# EAGLE library part SGTL5000 (library lib_stankus)
Freescale SGTL5000 audio codec
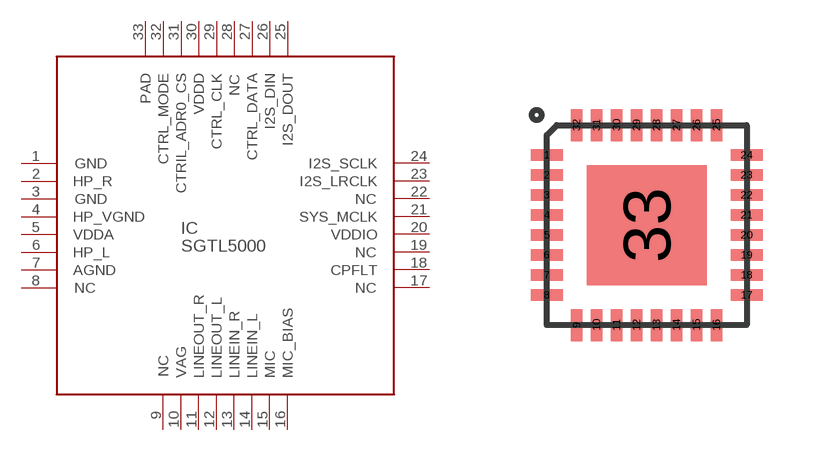
[diagram p39: symbol with the pads of QFN32_5_05; footprint QFN32_5_05]

Designator prefix IC

## SGTL5000-QFN32  [QFN32_5_05]
1  GND  pas
2  HP_R  pas
3  GND  pas
4  HP_VGND  pas
5  VDDA  pas
6  HP_L  pas
7  AGND  pas
8  NC  nc
9  NC  nc
10  VAG  pas
11  LINEOUT_R  pas
12  LINEOUT_L  pas
13  LINEIN_R  pas
14  LINEIN_L  pas
15  MIC  pas
16  MIC_BIAS  pas
17  NC  nc
18  CPFLT  pas
19  NC  nc
20  VDDIO  pas
21  SYS_MCLK  pas
22  NC  nc
23  I2S_LRCLK  pas
24  I2S_SCLK  pas
25  I2S_DOUT  pas
26  I2S_DIN  pas
27  CTRL_DATA  pas
28  NC  nc
29  CTRL_CLK  pas
30  VDDD  pas
31  CTRIL_ADR0_CS  pas
32  CTRL_MODE  pas
33  PAD  pas

## Footprint QFN32_5_05 (pad centres in mm)
QFN32, 5x5 MM, 0.5 MM
smd 0.8 x 0.28: 1 -2.5,1.75; 2 -2.5,1.25; 3 -2.5,0.75; 4 -2.5,0.25; 5 -2.5,-0.25; 6 -2.5,-0.75; 7 -2.5,-1.25; 8 -2.5,-1.75; 17 2.5,-1.75; 18 2.5,-1.25; 19 2.5,-0.75; 20 2.5,-0.25; 21 2.5,0.25; 22 2.5,0.75; 23 2.5,1.25; 24 2.5,1.75
smd 0.28 x 0.8: 9 -1.75,-2.5; 10 -1.25,-2.5; 11 -0.75,-2.5; 12 -0.25,-2.5; 13 0.25,-2.5; 14 0.75,-2.5; 15 1.25,-2.5; 16 1.75,-2.5; 25 1.75,2.5; 26 1.25,2.5; 27 0.75,2.5; 28 0.25,2.5; 29 -0.25,2.5; 30 -0.75,2.5; 31 -1.25,2.5; 32 -1.75,2.5
smd 3 x 3: 33 0,0